# EAGLE library part DA05 (library switch-dil)
DIL/CODE SWITCH
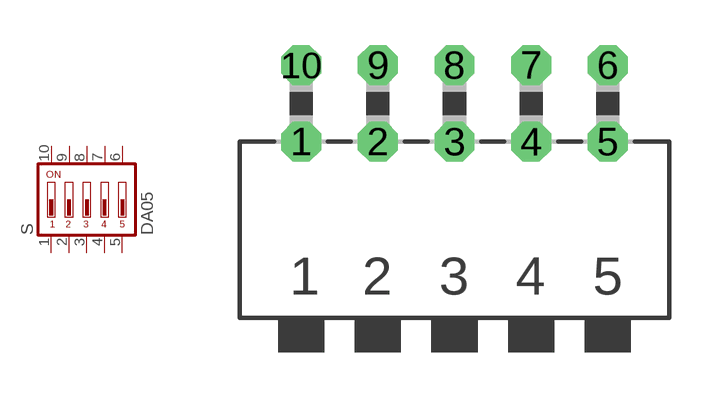
[diagram p2: symbol with the pads of DA-05; footprint DA-05]

Designator prefix S

## DA05 (MPN: MCDA05; OC_FARNELL: 1522001; OC_NEWARK: 74M2973)  [DA-05]
1  1  pas
2  2  pas
3  3  pas
4  4  pas
5  5  pas
6  6  pas
7  7  pas
8  8  pas
9  9  pas
10  10  pas

## Footprint DA-05 (pad centres in mm)
DIL/CODE SWITCH Mors distributor Buerklin, 17G586
drill 0.813 octagon: 1 -5.08,-1.27; 2 -2.54,-1.27; 3 0,-1.27; 4 2.54,-1.27; 5 5.08,-1.27; 6 5.08,1.27; 7 2.54,1.27; 8 0,1.27; 9 -2.54,1.27; 10 -5.08,1.27